# EAGLE library part MA08S (library con-amp-quick)
AMP QUICK CONNECTOR
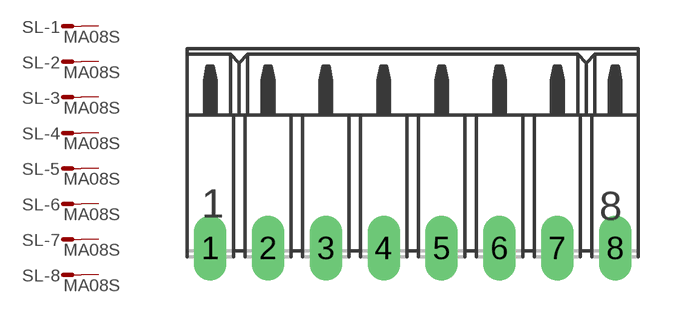
[diagram p37: symbol with the pads of 08PA; footprint 08PA]

Designator prefix SL; gates -1=M -2=M -3=M -4=M -5=M -6=M -7=M -8=M

## MA08S (OC_FARNELL: unknown; OC_NEWARK: unknown)  [08PA]
1  -1:S  pas
2  -2:S  pas
3  -3:S  pas
4  -4:S  pas
5  -5:S  pas
6  -6:S  pas
7  -7:S  pas
8  -8:S  pas

## Footprint 08PA (pad centres in mm)
AMP QUICK CONNECTOR
drill 0.914 long: 1 -8.89,0; 2 -6.35,0; 3 -3.81,0; 4 -1.27,0; 5 1.27,0; 6 3.81,0; 7 6.35,0; 8 8.89,0